# Altium schematic symbol library ON Semi Peripheral Peripheral Interface.SchLib: 3 symbols
Pins are listed as number, name and electrical type; pins without a type are passive.

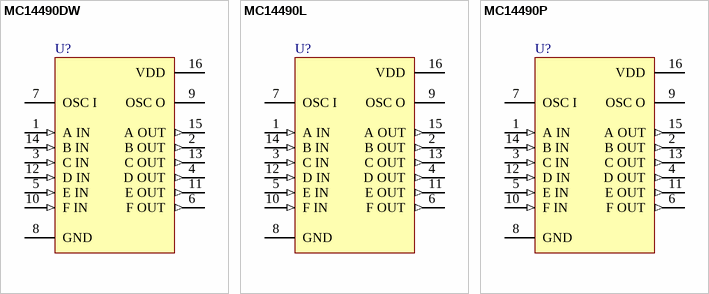
[diagram p0: symbols MC14490DW to MC14490P]

## MC14490DW
designator U?
Hex Contact Bounce Eliminator; Published: 15-Apr-2002; LatestRevisionDate: 13-Apr-2006; LatestRevisionNote: IPC-7351 Footprint Added.; DatasheetVersion: 1995; PackageReference: 751G-02; Publisher: Altium Limited; PackageDescription: 16-Pin Small Outline Integrated Circuit 1.27 mm Pitch; ComponentLink1Description: Manufacturer Link; ComponentLink1URL: http://www.onsemi.com/; ComponentLink2Description: Datasheet; ComponentLink2URL: http://www.onsemi.com/pub/Collateral/MC14490-D.PDF
footprint 751G-02_N (SOIC, 16-Leads, Body 10.3x7.5mm, Pitch 1.27mm, IPC Medium Density)
footprint 751G-02_L (SOIC, 16-Leads, Body 10.3x7.5mm, Pitch 1.27mm, IPC High Density)
footprint 751G-02_M (SOIC, 16-Leads, Body 10.3x7.5mm, Pitch 1.27mm, IPC Low Density)
pins: 1 A IN (in), 2 B OUT (out), 3 C IN (in), 4 D OUT (out), 5 E IN (in), 6 F OUT (out), 7 OSC I, 8 GND (power), 9 OSC O, 10 F IN (in), 11 E OUT (out), 12 D IN (in), 13 C OUT (out), 14 B IN (in), 15 A OUT (out), 16 VDD (power)

## MC14490L
designator U?
Hex Contact Bounce Eliminator; Published: 15-Apr-2002; DatasheetVersion: 1995; PackageVersion: 1996; PackageReference: 620-10; Publisher: Altium Limited; PackageDescription: DIP; 16 Leads; Row Spacing 7.62 mm; Pitch 2.54 mm; ComponentLink1Description: Manufacturer Link; ComponentLink1URL: http://www.onsemi.com/; ComponentLink2Description: Datasheet; ComponentLink2URL: http://www.onsemi.com/pub/Collateral/MC14490-D.PDF
footprint 620-10 (DIP; 16 Leads; Row Spacing 7.62 mm; Pitch 2.54 mm)
pins: 1 A IN (in), 2 B OUT (out), 3 C IN (in), 4 D OUT (out), 5 E IN (in), 6 F OUT (out), 7 OSC I, 8 GND (power), 9 OSC O, 10 F IN (in), 11 E OUT (out), 12 D IN (in), 13 C OUT (out), 14 B IN (in), 15 A OUT (out), 16 VDD (power)

## MC14490P
designator U?
Hex Contact Bounce Eliminator; Published: 15-Apr-2002; DatasheetVersion: 1995; PackageVersion: Apr-2000; PackageReference: 648-08; Publisher: Altium Limited; PackageDescription: DIP; 16 Leads; Row Spacing 7.62 mm; Pitch 2.54 mm; Code_JEDEC: MS-001-BB; ComponentLink1Description: Manufacturer Link; ComponentLink1URL: http://www.onsemi.com/; ComponentLink2Description: Datasheet; ComponentLink2URL: http://www.onsemi.com/pub/Collateral/MC14490-D.PDF
footprint 648-08 (DIP; 16 Leads; Row Spacing 7.62 mm; Pitch 2.54 mm)
pins: 1 A IN (in), 2 B OUT (out), 3 C IN (in), 4 D OUT (out), 5 E IN (in), 6 F OUT (out), 7 OSC I, 8 GND (power), 9 OSC O, 10 F IN (in), 11 E OUT (out), 12 D IN (in), 13 C OUT (out), 14 B IN (in), 15 A OUT (out), 16 VDD (power)